# EAGLE library part LTC4002* (library linear-technology-2)
Standalone Li-Ion Switch Mode Battery Charger
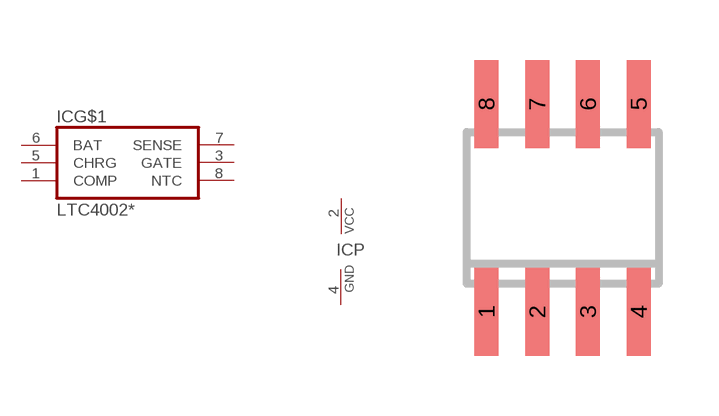
[diagram p25: symbol with the pads of SO08; footprint SO08]

Designator prefix IC; gates G$1=LTC4002 P=PWRN-C-G

## LTC4002ES8  [SO08]
1  G$1:COMP  pas
2  P:VCC  pwr
3  G$1:GATE  out
4  P:GND  pwr
5  G$1:CHRG
6  G$1:BAT  pas
7  G$1:SENSE  in
8  G$1:NTC  pas

## Footprint SO08 (pad centres in mm)
Small Outline IC
smd 0.6 x 2.2: 1 -1.905,-2.6; 2 -0.635,-2.6; 3 0.635,-2.6; 4 1.905,-2.6; 5 1.905,2.6; 6 0.635,2.6; 7 -0.635,2.6; 8 -1.905,2.6